# EAGLE library part REF35102QDBVR (library REF35102QDBVR)
Voltage References 650-nA quiescent current, 12-ppm/C drift, ultra-low-power precision voltage reference Source: Datasheet <https://www.ti.com/lit/ds/symlink/ref35.pdf>
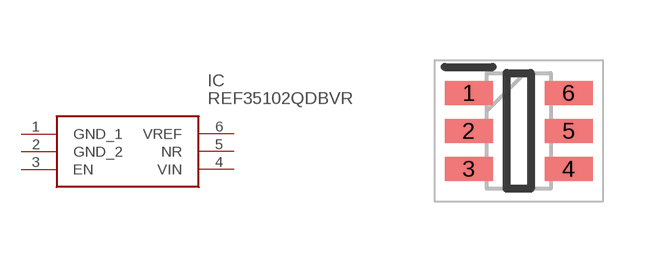
[diagram p0: symbol with the pads of SOT95P280X145-6N; footprint SOT95P280X145-6N]

Designator prefix IC

## REF35102QDBVR (Description: Voltage References 650-nA quiescent current, 12-ppm/C drift, ultra-low-power precision voltage reference; Height: 1.45mm; Manufacturer_Name: Texas Instruments; Manufacturer_Part_Number: REF35102QDBVR; Mouser_Part_Number: 595-REF35102QDBVR; Mouser_Price-Stock: https://www.mouser.co.uk/ProductDetail/Texas-Instruments/REF35102QDBVR?qs=rQFj71Wb1eWXaO82zju2Vg%3D%3D)  [SOT95P280X145-6N]
1  GND_1
2  GND_2
3  EN
4  VIN
5  NR
6  VREF

## Footprint SOT95P280X145-6N (pad centres in mm)
DBV0006A
smd 1.2 x 0.6: 1 -1.25,0.95; 2 -1.25,0; 3 -1.25,-0.95; 4 1.25,-0.95; 5 1.25,0; 6 1.25,0.95